# Altium schematic symbol library SCH - PAD WITH HOLE - 2X3MM.SchLib: 1 symbol
Pins are listed as number, name and electrical type; pins without a type are passive.

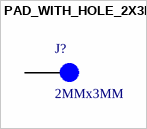
[diagram p0: symbol PAD_WITH_HOLE_2X3MM]

## PAD_WITH_HOLE_2X3MM
designator J?, comment 2MMx3MM  (no BOM)
High: 2mm Length: 3mm
footprint PAD_WITH_HOLE_2X3MM
pins: 1